# Altium integrated library WE-FLEX Flexible Transformer for DC_DC Converter.IntLib: 25 symbols
Pins are listed as number, name and electrical type; pins without a type are passive.

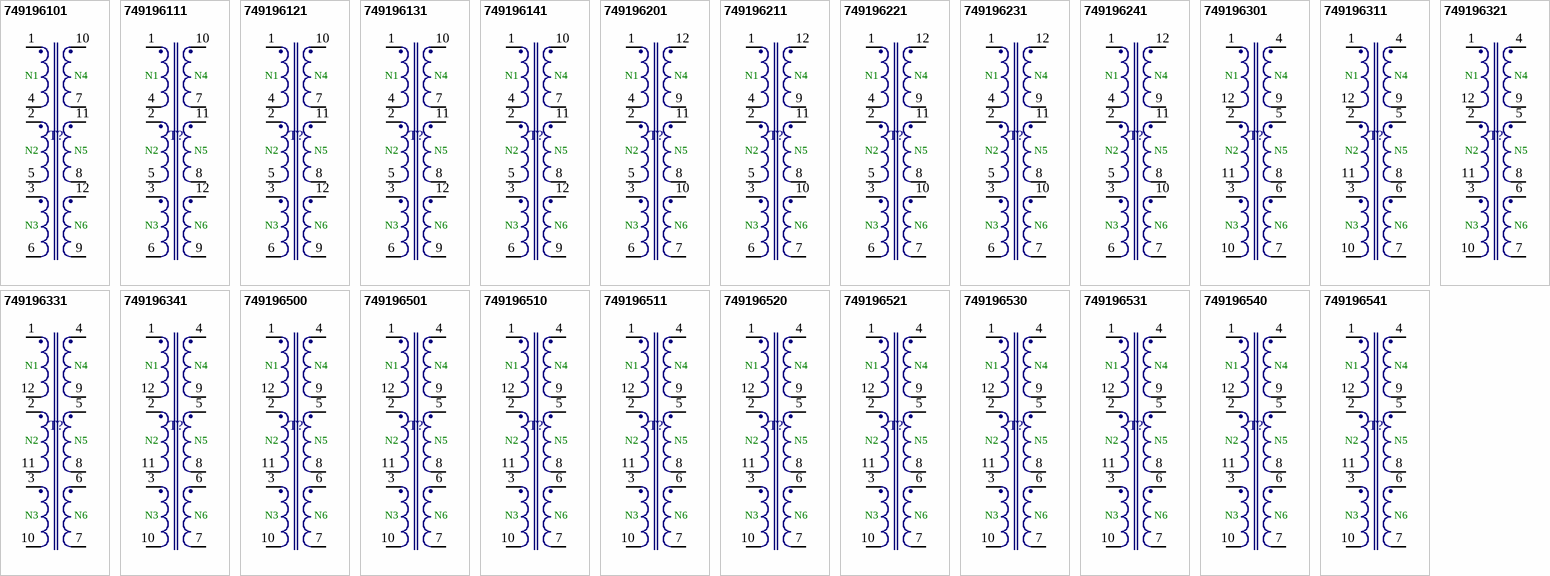
[diagram p0: symbols 749196101 to 749196541]

## 749196101
designator T?
Flexible Transformer for DC/DC Converter WE-FLEX, L=198.6µH; PartNumber: 749196101; PackageReference: ER11/5; Lbase: 198.6µH; ComponentLink1Description: Manufacturer URL; ComponentLink1URL: http://www.we-online.com; ComponentLink2Description: Datasheet; ComponentLink2URL: http://www.we-online.de/katalog/media/pdf/749196101.pdf
footprint ER11/5 (SMD, 12-Leads, Body 12.9x9.2mm (max), Pitch 2.00mm, IPC Medium Density)
pins: 1, 2, 3, 4, 5, 6, 7, 8, 9, 10, 11, 12
text: N1; N4; N2; N5; N3; N6

## 749196111
designator T?
Flexible Transformer for DC/DC Converter WE-FLEX, L=27.4µH; PartNumber: 749196111; Lbase: 27.4µH; PackageReference: ER11/5; ComponentLink1Description: Manufacturer URL; ComponentLink1URL: http://www.we-online.com; ComponentLink2Description: Datasheet; ComponentLink2URL: http://www.we-online.de/katalog/media/pdf/749196101.pdf
footprint ER11/5 (SMD, 12-Leads, Body 12.9x9.2mm (max), Pitch 2.00mm, IPC Medium Density)
pins: 1, 2, 3, 4, 5, 6, 7, 8, 9, 10, 11, 12
text: N1; N4; N2; N5; N3; N6

## 749196121
designator T?
Flexible Transformer for DC/DC Converter WE-FLEX, L=14.7µH; PartNumber: 749196121; Lbase: 14.7µH; PackageReference: ER11/5; ComponentLink1Description: Manufacturer URL; ComponentLink1URL: http://www.we-online.com; ComponentLink2Description: Datasheet; ComponentLink2URL: http://www.we-online.de/katalog/media/pdf/749196121.pdf
footprint ER11/5 (SMD, 12-Leads, Body 12.9x9.2mm (max), Pitch 2.00mm, IPC Medium Density)
pins: 1, 2, 3, 4, 5, 6, 7, 8, 9, 10, 11, 12
text: N1; N4; N2; N5; N3; N6

## 749196131
designator T?
Flexible Transformer for DC/DC Converter WE-FLEX, L=10.9µH; PartNumber: 749196131; Lbase: 10.9µH; PackageReference: ER11/5; ComponentLink1Description: Manufacturer URL; ComponentLink1URL: http://www.we-online.com; ComponentLink2Description: Datasheet; ComponentLink2URL: http://www.we-online.de/katalog/media/pdf/749196131.pdf
footprint ER11/5 (SMD, 12-Leads, Body 12.9x9.2mm (max), Pitch 2.00mm, IPC Medium Density)
pins: 1, 2, 3, 4, 5, 6, 7, 8, 9, 10, 11, 12
text: N1; N4; N2; N5; N3; N6

## 749196141
designator T?
Flexible Transformer for DC/DC Converter WE-FLEX, L=8.5µH; PartNumber: 749196141; Lbase: 8.5µH; PackageReference: ER11/5; ComponentLink1Description: Manufacturer URL; ComponentLink1URL: http://www.we-online.com; ComponentLink2Description: Datasheet; ComponentLink2URL: http://www.we-online.de/katalog/media/pdf/749196141.pdf
footprint ER11/5 (SMD, 12-Leads, Body 12.9x9.2mm (max), Pitch 2.00mm, IPC Medium Density)
pins: 1, 2, 3, 4, 5, 6, 7, 8, 9, 10, 11, 12
text: N1; N4; N2; N5; N3; N6

## 749196201
designator T?
Flexible Transformer for DC/DC Converter WE-FLEX, L=140µH; PartNumber: 749196201; Lbase: 140µH; PackageReference: ER14.5/6; ComponentLink1Description: Manufacturer URL; ComponentLink1URL: http://www.we-online.com; ComponentLink2Description: Datasheet; ComponentLink2URL: http://www.we-online.de/katalog/media/pdf/749196201.pdf
footprint ER14.5/6 (SMD, 12-Leads, Body 16.3x12.0mm (max), Pitch 2.50mm, IPC Medium Density)
pins: 1, 2, 3, 4, 5, 6, 7, 8, 9, 10, 11, 12
text: N1; N4; N2; N5; N3; N6

## 749196211
designator T?
Flexible Transformer for DC/DC Converter WE-FLEX, L=21.6µH; PartNumber: 749196211; Lbase: 21.6µH; PackageReference: ER14.5/6; ComponentLink1Description: Manufacturer URL; ComponentLink1URL: http://www.we-online.com; ComponentLink2Description: Datasheet; ComponentLink2URL: http://www.we-online.de/katalog/media/pdf/749196211.pdf
footprint ER14.5/6 (SMD, 12-Leads, Body 16.3x12.0mm (max), Pitch 2.50mm, IPC Medium Density)
pins: 1, 2, 3, 4, 5, 6, 7, 8, 9, 10, 11, 12
text: N1; N4; N2; N5; N3; N6

## 749196221
designator T?
Flexible Transformer for DC/DC Converter WE-FLEX, L=11.6µH; PartNumber: 749196221; Lbase: 11.6µH; PackageReference: ER14.5/6; ComponentLink1Description: Manufacturer URL; ComponentLink1URL: http://www.we-online.com; ComponentLink2Description: Datasheet; ComponentLink2URL: http://www.we-online.de/katalog/media/pdf/749196221.pdf
footprint ER14.5/6 (SMD, 12-Leads, Body 16.3x12.0mm (max), Pitch 2.50mm, IPC Medium Density)
pins: 1, 2, 3, 4, 5, 6, 7, 8, 9, 10, 11, 12
text: N1; N4; N2; N5; N3; N6

## 749196231
designator T?
Flexible Transformer for DC/DC Converter WE-FLEX, L=8.3µH; PartNumber: 749196231; Lbase: 8.3µH; PackageReference: ER14.5/6; ComponentLink1Description: Manufacturer URL; ComponentLink1URL: http://www.we-online.com; ComponentLink2Description: Datasheet; ComponentLink2URL: http://www.we-online.de/katalog/media/pdf/749196231.pdf
footprint ER14.5/6 (SMD, 12-Leads, Body 16.3x12.0mm (max), Pitch 2.50mm, IPC Medium Density)
pins: 1, 2, 3, 4, 5, 6, 7, 8, 9, 10, 11, 12
text: N1; N4; N2; N5; N3; N6

## 749196241
designator T?
Flexible Transformer for DC/DC Converter WE-FLEX, L=6.6µH; PartNumber: 749196241; Lbase: 6.6µH; PackageReference: ER14.5/6; ComponentLink1Description: Manufacturer URL; ComponentLink1URL: http://www.we-online.com; ComponentLink2Description: Datasheet; ComponentLink2URL: http://www.we-online.de/katalog/media/pdf/749196241.pdf
footprint ER14.5/6 (SMD, 12-Leads, Body 16.3x12.0mm (max), Pitch 2.50mm, IPC Medium Density)
pins: 1, 2, 3, 4, 5, 6, 7, 8, 9, 10, 11, 12
text: N1; N4; N2; N5; N3; N6

## 749196301
designator T?
Flexible Transformer for DC/DC Converter WE-FLEX, L=153.8µH; PartNumber: 749196301; PackageReference: EFD15; Lbase: 153.8µH; ComponentLink1Description: Manufacturer URL; ComponentLink1URL: http://www.we-online.com; ComponentLink2Description: Datasheet; ComponentLink2URL: http://www.we-online.de/katalog/media/pdf/749196301.pdf
footprint EFD15 (SMD, 12-Leads, Body 17.5x16.0mm (max), Pitch 2.54mm, IPC Medium Density)
pins: 1, 2, 3, 4, 5, 6, 7, 8, 9, 10, 11, 12
text: N1; N4; N2; N5; N3; N6

## 749196311
designator T?
Flexible Transformer for DC/DC Converter WE-FLEX, L=23.3µH; PartNumber: 749196311; Lbase: 23.3µH; PackageReference: EFD15; ComponentLink1Description: Manufacturer URL; ComponentLink1URL: http://www.we-online.com; ComponentLink2Description: Datasheet; ComponentLink2URL: http://www.we-online.de/katalog/media/pdf/749196301.pdf
footprint EFD15 (SMD, 12-Leads, Body 17.5x16.0mm (max), Pitch 2.54mm, IPC Medium Density)
pins: 1, 2, 3, 4, 5, 6, 7, 8, 9, 10, 11, 12
text: N1; N4; N2; N5; N3; N6

## 749196321
designator T?
Flexible Transformer for DC/DC Converter WE-FLEX, L=14.2µH; PartNumber: 749196321; Lbase: 14.2µH; PackageReference: EFD15; ComponentLink1Description: Manufacturer URL; ComponentLink1URL: http://www.we-online.com; ComponentLink2Description: Datasheet; ComponentLink2URL: http://www.we-online.de/katalog/media/pdf/749196321.pdf
footprint EFD15 (SMD, 12-Leads, Body 17.5x16.0mm (max), Pitch 2.54mm, IPC Medium Density)
pins: 1, 2, 3, 4, 5, 6, 7, 8, 9, 10, 11, 12
text: N1; N4; N2; N5; N3; N6

## 749196331
designator T?
Flexible Transformer for DC/DC Converter WE-FLEX, L=9.3µH; PartNumber: 749196331; Lbase: 9.3µH; PackageReference: EFD15; ComponentLink1Description: Manufacturer URL; ComponentLink1URL: http://www.we-online.com; ComponentLink2Description: Datasheet; ComponentLink2URL: http://www.we-online.de/katalog/media/pdf/749196331.pdf
footprint EFD15 (SMD, 12-Leads, Body 17.5x16.0mm (max), Pitch 2.54mm, IPC Medium Density)
pins: 1, 2, 3, 4, 5, 6, 7, 8, 9, 10, 11, 12
text: N1; N4; N2; N5; N3; N6

## 749196341
designator T?
Flexible Transformer for DC/DC Converter WE-FLEX, L=7.9µH; PartNumber: 749196341; Lbase: 7.9µH; PackageReference: EFD15; ComponentLink1Description: Manufacturer URL; ComponentLink1URL: http://www.we-online.com; ComponentLink2Description: Datasheet; ComponentLink2URL: http://www.we-online.de/katalog/media/pdf/749196341.pdf
footprint EFD15 (SMD, 12-Leads, Body 17.5x16.0mm (max), Pitch 2.54mm, IPC Medium Density)
pins: 1, 2, 3, 4, 5, 6, 7, 8, 9, 10, 11, 12
text: N1; N4; N2; N5; N3; N6

## 749196500
designator T?
Flexible Transformer for DC/DC Converter WE-FLEX, L=87.1µH; PartNumber: 749196500; Lbase: 87.1µH; PackageReference: EFD20; ComponentLink1Description: Manufacturer URL; ComponentLink1URL: http://www.we-online.com; ComponentLink2Description: Datasheet; ComponentLink2URL: http://www.we-online.de/katalog/media/pdf/749196500.pdf
footprint EFD20 (SMD, 10-Leads, Body 22.0x20.0mm (max), Pitch 3.75mm, IPC Medium Density)
pins: 1, 2, 3, 4, 5, 6, 7, 8, 9, 10, 11, 12
text: N1; N4; N2; N5; N3; N6

## 749196501
designator T?
Flexible Transformer for DC/DC Converter WE-FLEX, L=196µH; PartNumber: 749196501; Lbase: 196µH; PackageReference: EFD20; ComponentLink1Description: Manufacturer URL; ComponentLink1URL: http://www.we-online.com; ComponentLink2Description: Datasheet; ComponentLink2URL: http://www.we-online.de/katalog/media/pdf/749196501.pdf
footprint EFD20 (SMD, 10-Leads, Body 22.0x20.0mm (max), Pitch 3.75mm, IPC Medium Density)
pins: 1, 2, 3, 4, 5, 6, 7, 8, 9, 10, 11, 12
text: N1; N4; N2; N5; N3; N6

## 749196510
designator T?
Flexible Transformer for DC/DC Converter WE-FLEX, L=9.9µH; PartNumber: 749196510; Lbase: 9.9µH; PackageReference: EFD20; ComponentLink1Description: Manufacturer URL; ComponentLink1URL: http://www.we-online.com; ComponentLink2Description: Datasheet; ComponentLink2URL: http://www.we-online.de/katalog/media/pdf/749196510.pdf
footprint EFD20 (SMD, 10-Leads, Body 22.0x20.0mm (max), Pitch 3.75mm, IPC Medium Density)
pins: 1, 2, 3, 4, 5, 6, 7, 8, 9, 10, 11, 12
text: N1; N4; N2; N5; N3; N6

## 749196511
designator T?
Flexible Transformer for DC/DC Converter WE-FLEX, L=22.3µH; PartNumber: 749196511; Lbase: 22.3µH; PackageReference: EFD20; ComponentLink1Description: Manufacturer URL; ComponentLink1URL: http://www.we-online.com; ComponentLink2Description: Datasheet; ComponentLink2URL: http://www.we-online.de/katalog/media/pdf/749196511.pdf
footprint EFD20 (SMD, 10-Leads, Body 22.0x20.0mm (max), Pitch 3.75mm, IPC Medium Density)
pins: 1, 2, 3, 4, 5, 6, 7, 8, 9, 10, 11, 12
text: N1; N4; N2; N5; N3; N6

## 749196520
designator T?
Flexible Transformer for DC/DC Converter WE-FLEX, L=5.3µH; PartNumber: 749196520; Lbase: 5.3µH; PackageReference: EFD20; ComponentLink1Description: Manufacturer URL; ComponentLink1URL: http://www.we-online.com; ComponentLink2Description: Datasheet; ComponentLink2URL: http://www.we-online.de/katalog/media/pdf/749196520.pdf
footprint EFD20 (SMD, 10-Leads, Body 22.0x20.0mm (max), Pitch 3.75mm, IPC Medium Density)
pins: 1, 2, 3, 4, 5, 6, 7, 8, 9, 10, 11, 12
text: N1; N4; N2; N5; N3; N6

## 749196521
designator T?
Flexible Transformer for DC/DC Converter WE-FLEX, L=12.0µH; PartNumber: 749196521; Lbase: 12.0µH; PackageReference: EFD20; ComponentLink1Description: Manufacturer URL; ComponentLink1URL: http://www.we-online.com; ComponentLink2Description: Datasheet; ComponentLink2URL: http://www.we-online.de/katalog/media/pdf/749196521.pdf
footprint EFD20 (SMD, 10-Leads, Body 22.0x20.0mm (max), Pitch 3.75mm, IPC Medium Density)
pins: 1, 2, 3, 4, 5, 6, 7, 8, 9, 10, 11, 12
text: N1; N4; N2; N5; N3; N6

## 749196530
designator T?
Flexible Transformer for DC/DC Converter WE-FLEX, L=4.3µH; PartNumber: 749196530; Lbase: 4.3µH; PackageReference: EFD20; ComponentLink1Description: Manufacturer URL; ComponentLink1URL: http://www.we-online.com; ComponentLink2Description: Datasheet; ComponentLink2URL: http://www.we-online.de/katalog/media/pdf/749196530.pdf
footprint EFD20 (SMD, 10-Leads, Body 22.0x20.0mm (max), Pitch 3.75mm, IPC Medium Density)
pins: 1, 2, 3, 4, 5, 6, 7, 8, 9, 10, 11, 12
text: N1; N4; N2; N5; N3; N6

## 749196531
designator T?
Flexible Transformer for DC/DC Converter WE-FLEX, L=9.7µH; PartNumber: 749196531; Lbase: 9.7µH; PackageReference: EFD20; ComponentLink1Description: Manufacturer URL; ComponentLink1URL: http://www.we-online.com; ComponentLink2Description: Datasheet; ComponentLink2URL: http://www.we-online.de/katalog/media/pdf/749196531.pdf
footprint EFD20 (SMD, 10-Leads, Body 22.0x20.0mm (max), Pitch 3.75mm, IPC Medium Density)
pins: 1, 2, 3, 4, 5, 6, 7, 8, 9, 10, 11, 12
text: N1; N4; N2; N5; N3; N6

## 749196540
designator T?
Flexible Transformer for DC/DC Converter WE-FLEX, L=3.4µH; PartNumber: 749196540; Lbase: 3.4µH; PackageReference: EFD20; ComponentLink1Description: Manufacturer URL; ComponentLink1URL: http://www.we-online.com; ComponentLink2Description: Datasheet; ComponentLink2URL: http://www.we-online.de/katalog/media/pdf/749196540.pdf
footprint EFD20 (SMD, 10-Leads, Body 22.0x20.0mm (max), Pitch 3.75mm, IPC Medium Density)
pins: 1, 2, 3, 4, 5, 6, 7, 8, 9, 10, 11, 12
text: N1; N4; N2; N5; N3; N6

## 749196541
designator T?
Flexible Transformer for DC/DC Converter WE-FLEX, L=7.6µH; PartNumber: 749196541; Lbase: 7.6µH; PackageReference: EFD20; ComponentLink1Description: Manufacturer URL; ComponentLink1URL: http://www.we-online.com; ComponentLink2Description: Datasheet; ComponentLink2URL: http://www.we-online.de/katalog/media/pdf/749196541.pdf
footprint EFD20 (SMD, 10-Leads, Body 22.0x20.0mm (max), Pitch 3.75mm, IPC Medium Density)
pins: 1, 2, 3, 4, 5, 6, 7, 8, 9, 10, 11, 12
text: N1; N4; N2; N5; N3; N6